# Altium footprint library diode.pcblib: 31 footprints (part 2 of 2)
Each footprint in its own frame and in the unit in brackets; x right, y up, seen from the top. Pads: shape width x height; smd on the part's side, far side on the other; paste and mask are expansions set on the pad; w line width, h text height; cw(c..) or ccw(c..) is an arc to the next point about the centre after c.
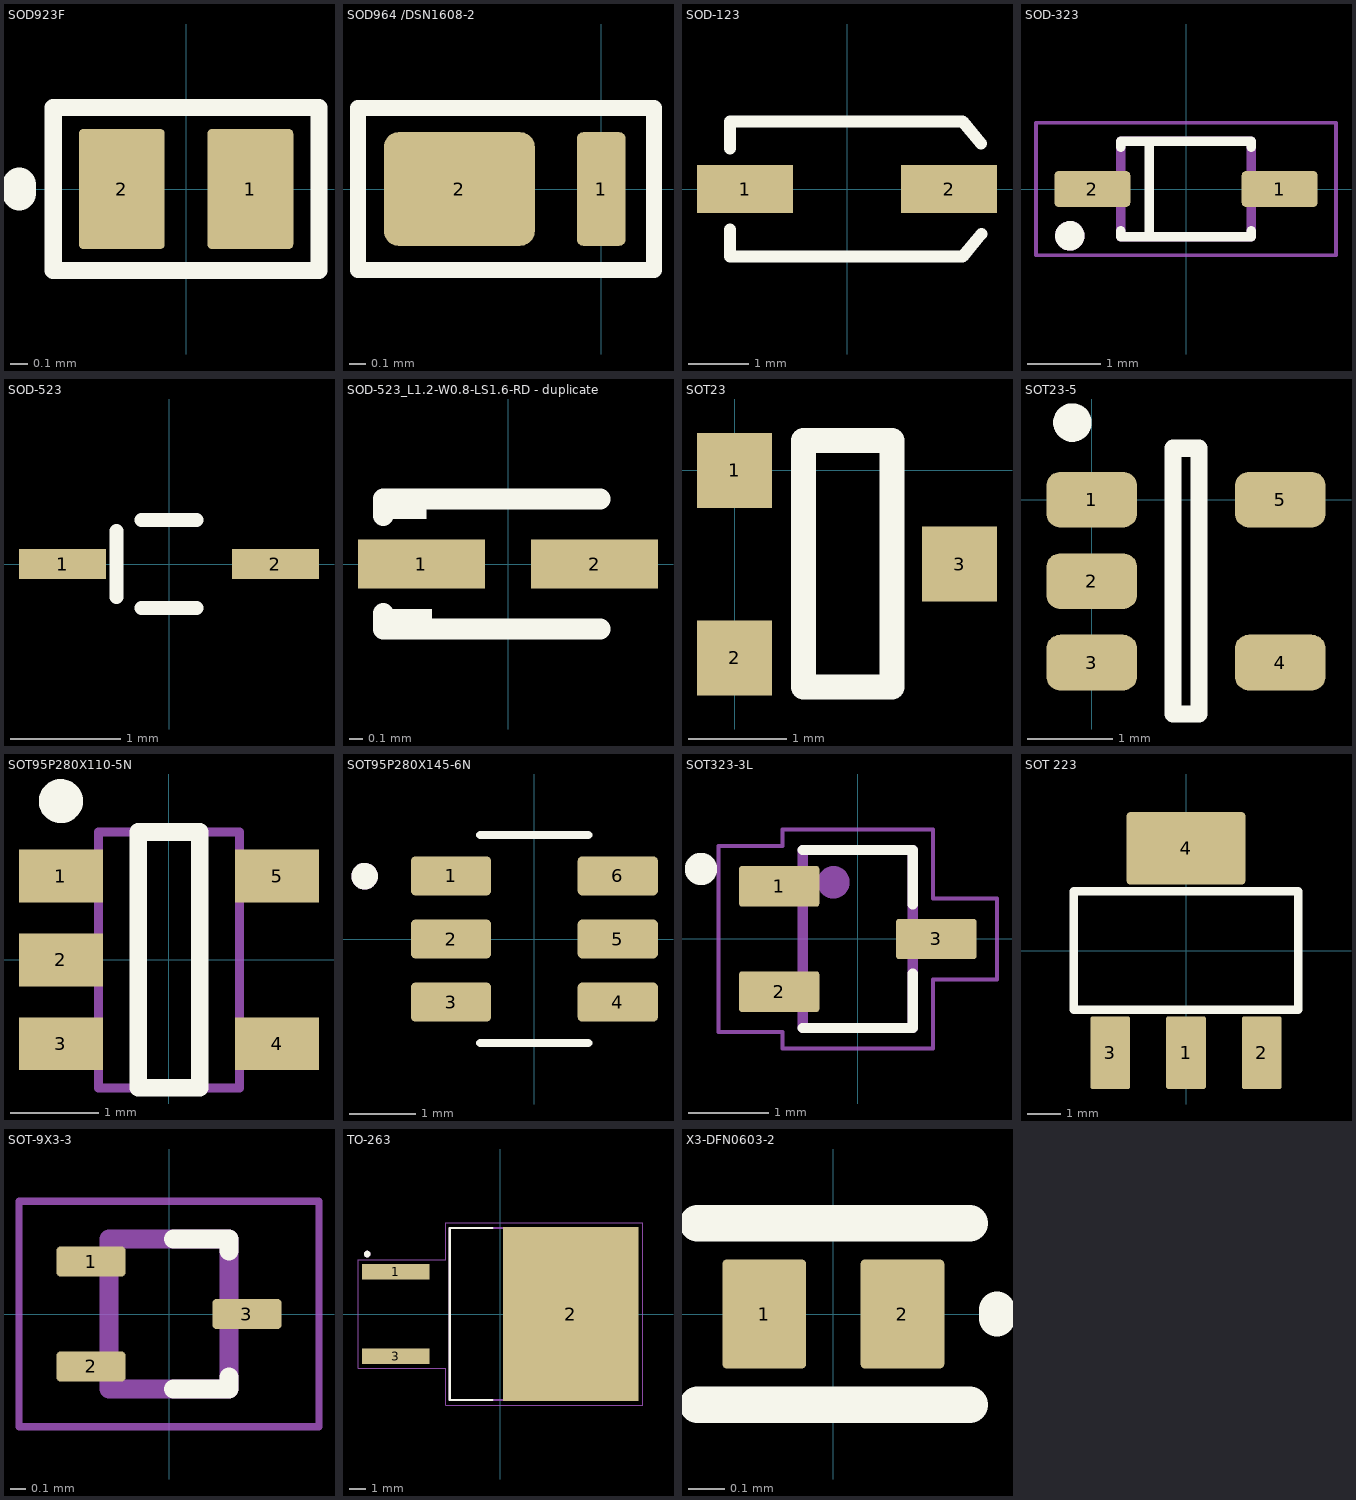
[diagram p1: the footprints below, top view; thin cyan lines are the x and y axes]

## SOD923F [mm]
pads (2):
  rrect10% 0.5x0.7 smd mask+0.05: 1(0.375,0) 2(-0.375,0)
Top Overlay:
  lines w0.1: -0.775,-0.475 -0.775,0.475 0.775,0.475 0.775,-0.475 -0.775,-0.475
  lines w0.2: -0.975,-0.025 -0.975,0.025
3D body: height 0.5, standoff 0, extent -0.5,-0.3 0.5,0.3

## SOD964 /DSN1608-2 [mm]
pads (2):
  rrect25% 0.3x0.7 smd mask+0.07: 1(0,0)
  rrect25% 0.93x0.7 smd mask+0.07: 2(-0.875,0)
Top Overlay:
  lines w0.1: -1.5,-0.5 -1.5,0.5 0.325,0.5 0.325,0.325 0.325,-0.5 -1.5,-0.5
3D body "SOD964.stp": height 0.3, standoff -0.01, extent -1.425,-0.425 0.225,0.425

## SOD-123 [mm] "SOD-123; 2 Leads; Body 2.7 x 1.6 mm, (LxW)"
height 1.35
pads (2):
  rect 1.6x0.8 smd: 1(-1.7,0) 2(1.7,0)
Top Overlay:
  lines w0.2: -1.95,-0.675 -1.95,-1.125 1.928,-1.125 2.241,-0.747 ; -1.95,0.675 -1.95,1.125 1.928,1.125 2.233,0.756
3D body "SOD-123_DiodesInc.step": height 1.43, standoff -0.02, extent -1.869,-0.862 1.981,0.838

## SOD-323 [mm]
pads (2):
  rrect25% 1.03x0.49 smd: 1(1.27,0) 2(-1.27,0)
Top Overlay:
  circle w0.2: c-1.576,-0.635 r0.1
  lines w0.127: -0.887,-0.565 -0.887,-0.65 0.887,-0.65 0.887,-0.565 ; -0.887,0.565 -0.887,0.65 0.887,0.65 0.887,0.565 ; -0.5,-0.65 -0.5,0.65
Plata3D:
  circle w0.2: c-1.576,-0.635 r0.1
  lines w0.127: -0.887,-0.65 -0.887,0.65 0.887,0.65 0.887,-0.65 -0.887,-0.65
Board3D:
  lines w0.05: -2.035,-0.9 -2.035,0.9 2.035,0.9 2.035,-0.9 -2.035,-0.9
3D body "step_temp.STEP": height 1.15, standoff 0, extent -1.338,-0.65 1.338,0.65

## SOD-523 [mm]
height 0.7
pads (2):
  rect 0.79x0.27 smd: 1(-0.965,0) 2(0.965,0)
Top Overlay:
  lines w0.127: -0.475,-0.3 -0.475,0.3 ; -0.25,-0.4 0.25,-0.4 ; -0.25,0.4 0.25,0.4
3D body "step_temp.STEP": height 0.7, standoff 0, extent -0.8,-0.4 0.8,0.4

## SOD-523_L1.2-W0.8-LS1.6-RD - duplicate [mm]
pads (2):
  rect 0.93x0.36 smd: 1(-0.635,0) 2(0.635,0)
Top Overlay:
  region: -0.6,0.552 -0.6,0.332 -0.905,0.332 -0.905,0.552
  region: -0.56,-0.552 -0.56,-0.332 -0.864,-0.332 -0.864,-0.552
  lines w0.152: -0.914,-0.363 -0.914,-0.476 -0.676,-0.476 0.676,-0.476 ; -0.914,0.356 -0.914,0.476 -0.676,0.476 0.676,0.476
3D body "step_temp.STEP": height 0.7, standoff 0, extent -0.8,-0.4 0.8,0.4

## SOT23 [mil]
height 118.11
pads (3):
  rect 30x30 smd: 1(0,0) 2(0,-75) 3(90,-37.5)
Top Overlay:
  lines w10: 27.56,-86.61 27.56,11.81 62.99,11.81 62.99,-86.61 27.56,-86.61
3D body "SOT-23.step": height 41.34, standoff -1.97, extent -4,-97 94.42,21.11

## SOT23-5 [mm]
height 3
pads (5):
  rrect50% 1.06x0.65 smd: 1(0,0) 2(0,-0.95) 3(0,-1.9) 4(2.2,-1.9) 5(2.2,0)
Top Overlay:
  circle w0.25: c-0.225,0.9 r0.1
  lines w0.2: 0.95,-2.5 1.25,-2.5 1.25,0.6 0.95,0.6 0.95,-2.5
3D body "sot235.step": height 1, standoff 0, extent -0.07,-2.41 2.27,0.51

## SOT95P280X110-5N [mm] "SOT23, 5-Leads, Body 2,90x2,80mm, Pitch 0,95mm, IPC Medium Density"
height 1.1
pads (5):
  rect 0.95x0.6 smd: 1(-1.225,0.95) 2(-1.225,0) 3(-1.225,-0.95) 4(1.225,-0.95) 5(1.225,0.95)
Top Overlay:
  circle w0.25: c-1.225,1.8 r0.125
  lines w0.2: -0.35,-1.45 0.35,-1.45 0.35,1.45 -0.35,1.45 -0.35,-1.45
Plata3D:
  lines w0.1: -0.8,-1.45 -0.8,1.45 0.8,1.45 0.8,-1.45 -0.8,-1.45
3D body: height 1.1, standoff 0.1, extent -0.8,-1.45 0.8,1.45

## SOT95P280X145-6N [mm]
pads (6):
  rrect25% 1.21x0.59 smd: 1(-1.255,0.95) 2(-1.255,0) 3(-1.255,-0.95) 4(1.255,-0.95) 5(1.255,0) 6(1.255,0.95)
Top Overlay:
  circle w0.2: c-2.555,0.945 r0.1
  lines w0.127: -0.813,-1.565 0.813,-1.565 ; -0.813,1.565 0.813,1.565
Plata3D:
  circle w0.2: c-2.555,0.945 r0.1
3D body "step_temp.STEP": height 1.42, standoff -0.03, extent -1.4,-1.462 1.4,1.463

## SOT323-3L [mm]
pads (3):
  rrect13% 0.99x0.5 smd: 1(-0.97,0.65) 2(-0.97,-0.65) 3(0.97,0)
Top Overlay:
  circle w0.3: c-1.935,0.865 r0.05
  lines w0.127: -0.68,-1.1 0.68,-1.1 0.68,-0.43 ; -0.68,1.1 0.68,1.1 0.68,0.43
Plata3D:
  circle w0.3: c-0.3,0.7 r0.05
  lines w0.127: -0.68,-1.1 -0.68,1.1 0.68,1.1 0.68,-1.1 -0.68,-1.1
Board3D:
  lines w0.05: -1.72,-1.15 -0.93,-1.15 -0.93,-1.35 0.93,-1.35 0.93,-0.5 1.72,-0.5 1.72,0.5 0.93,0.5 0.93,1.35 -0.93,1.35 -0.93,1.15 -1.72,1.15 -1.72,-1.15
3D body "ESDCAN04-2BWY--3DModel-STEP-510211.STEP": height 1.1, standoff 0, extent -1.075,-1 1.025,1

## SOT 223 [mm]
pads (4):
  rrect10% 1.2x2.2 smd mask+0: 1(0,-3.1) 2(2.3,-3.1) 3(-2.3,-3.1)
  rrect10% 3.6x2.2 smd mask+0: 4(0,3.1)
Top Overlay:
  lines w0.254: -3.4,-1.8 -3.4,1.8 3.4,1.8 3.4,-1.8 0,-1.8 -3.4,-1.8
3D body "User Library-sot-223.step": height 1.64, standoff -0.04, extent -3.25,-3.466 3.25,3.466

## SOT-9X3-3 [mm]
pads (3):
  rrect25% 0.46x0.2 smd: 1(-0.52,0.35) 2(-0.52,-0.35) 3(0.52,0)
Top Overlay:
  lines w0.127: 0.03,-0.5 0.4,-0.5 0.4,-0.42 ; 0.03,0.5 0.4,0.5 0.4,0.42
Plata3D:
  lines w0.127: -0.4,-0.5 0.4,-0.5 0.4,0.5 -0.4,0.5 -0.4,-0.5
Board3D:
  lines w0.05: -1,-0.75 1,-0.75 1,0.75 -1,0.75 -1,-0.75
3D body "TPD2EUSB30DRTR--3DModel-STEP-56544.STEP": height 0.5, standoff 0, extent -0.55,-0.5 0.45,0.5

## TO-263 [mm]
pads (3):
  rect 4.05x0.94 smd: 1(-6.27,2.54) 3(-6.27,-2.54)
  rect 8.12x10.48 smd paste-6: 2(4.23,0)
Top Overlay:
  circle w0.2: c-8,3.6 r0.1
  lines w0.127: -0.48,-5.16 -3.04,-5.16 -3.04,5.16 -0.48,5.16
Top Paste:
  region: 7.735,-4.915 6.145,-4.915 6.145,-3.485 7.735,-3.485
  region: 2.315,-2.815 0.725,-2.815 0.725,-1.385 2.315,-1.385
  region: 2.315,-4.915 0.725,-4.915 0.725,-3.485 2.315,-3.485
  region: 7.735,-2.815 6.145,-2.815 6.145,-1.385 7.735,-1.385
  region: 7.735,-0.715 6.145,-0.715 6.145,0.715 7.735,0.715
  region: 7.735,1.385 6.145,1.385 6.145,2.815 7.735,2.815
  region: 7.735,3.485 6.145,3.485 6.145,4.915 7.735,4.915
  region: 2.315,3.485 0.725,3.485 0.725,4.915 2.315,4.915
  region: 2.315,1.385 0.725,1.385 0.725,2.815 2.315,2.815
  region: 2.315,-0.715 0.725,-0.715 0.725,0.715 2.315,0.715
  region: 5.025,-4.915 3.435,-4.915 3.435,-3.485 5.025,-3.485
  region: 5.025,-2.815 3.435,-2.815 3.435,-1.385 5.025,-1.385
  region: 5.025,3.485 3.435,3.485 3.435,4.915 5.025,4.915
  region: 5.025,1.385 3.435,1.385 3.435,2.815 5.025,2.815
  region: 5.025,-0.715 3.435,-0.715 3.435,0.715 5.025,0.715
Plata3D:
  circle w0.2: c-8,3.6 r0.1
  lines w0.127: -3.04,-5.16 6.42,-5.16 6.42,5.16 -3.04,5.16 -3.04,-5.16
Board3D:
  lines w0.05: -8.55,-3.26 -3.29,-3.26 -3.29,-5.49 8.54,-5.49 8.54,5.49 -3.29,5.49 -3.29,3.26 -8.55,3.26 -8.55,-3.26
3D body "step_temp.STEP": height 4.83, standoff 0, extent -7.15,-5.03 8.09,5.03

## X3-DFN0603-2 [mm]
pads (2):
  rrect10% 0.23x0.3 smd mask+0.05: 1(-0.19,0) 2(0.19,0)
Top Overlay:
  lines w0.1: -0.375,-0.25 0.375,-0.25 ; -0.375,0.25 0.375,0.25 ; 0.45,-0.012 0.45,0.012
3D body: height 0.3, standoff -0.03, extent -0.325,-0.175 0.325,0.175